# EAGLE library part 1365-70 (library con-leotronics)
DUAL ROW STRAIGHT HEADER 1364 SERIES. 1.27mm x 1.27mm. Without Fixing Post. SMT Source: http://www.leotronics.co.uk/Conexcon/Data%20Sheets/sec.%20A/1364ing.pdf
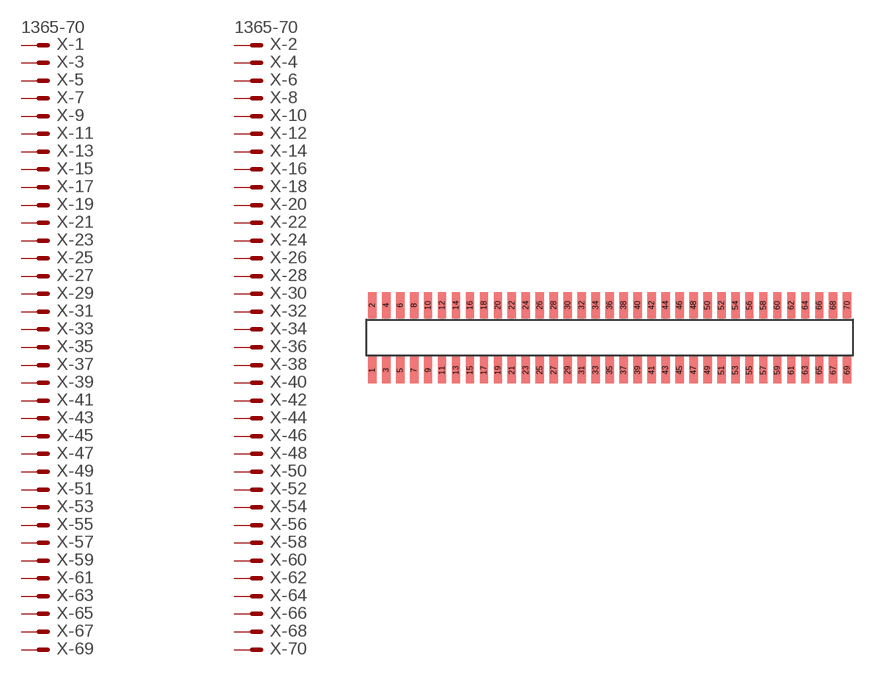
[diagram p78: symbol with the pads of 1365-70; footprint 1365-70]

Designator prefix X; gates -1=MVAL -2=MVAL -3=M -4=M -5=M -6=M -7=M -8=M -9=M -10=M -11=M -12=M -13=M -14=M -15=M -16=M -17=M -18=M -19=M -20=M -21=M -22=M -23=M -24=M -25=M -26=M -27=M -28=M -29=M -30=M -31=M -32=M -33=M -34=M -35=M -36=M -37=M -38=M -39=M -40=M -41=M -42=M -43=M -44=M -45=M -46=M -47=M -48=M -49=M -50=M -51=M -52=M -53=M -54=M -55=M -56=M -57=M -58=M -59=M -60=M -61=M -62=M -63=M -64=M -65=M -66=M -67=M -68=M -69=M -70=M

## 1365-70 (OC_FARNELL: unknown; OC_NEWARK: unknown)  [1365-70]
1  -1:S  pas
2  -2:S  pas
3  -3:S  pas
4  -4:S  pas
5  -5:S  pas
6  -6:S  pas
7  -7:S  pas
8  -8:S  pas
9  -9:S  pas
10  -10:S  pas
11  -11:S  pas
12  -12:S  pas
13  -13:S  pas
14  -14:S  pas
15  -15:S  pas
16  -16:S  pas
17  -17:S  pas
18  -18:S  pas
19  -19:S  pas
20  -20:S  pas
21  -21:S  pas
22  -22:S  pas
23  -23:S  pas
24  -24:S  pas
25  -25:S  pas
26  -26:S  pas
27  -27:S  pas
28  -28:S  pas
29  -29:S  pas
30  -30:S  pas
31  -31:S  pas
32  -32:S  pas
33  -33:S  pas
34  -34:S  pas
35  -35:S  pas
36  -36:S  pas
37  -37:S  pas
38  -38:S  pas
39  -39:S  pas
40  -40:S  pas
41  -41:S  pas
42  -42:S  pas
43  -43:S  pas
44  -44:S  pas
45  -45:S  pas
46  -46:S  pas
47  -47:S  pas
48  -48:S  pas
49  -49:S  pas
50  -50:S  pas
51  -51:S  pas
52  -52:S  pas
53  -53:S  pas
54  -54:S  pas
55  -55:S  pas
56  -56:S  pas
57  -57:S  pas
58  -58:S  pas
59  -59:S  pas
60  -60:S  pas
61  -61:S  pas
62  -62:S  pas
63  -63:S  pas
64  -64:S  pas
65  -65:S  pas
66  -66:S  pas
67  -67:S  pas
68  -68:S  pas
69  -69:S  pas
70  -70:S  pas

## Footprint 1365-70 (pad centres in mm)
DUAL ROW STRAIGHT HEADER 1364 SERIES. 1.27mm x 1.27mm. Without Fixing Post. SMT Source: http://www.leotronics.co.uk/Conexcon/Data%20Sheets/sec.%20A/1364ing.pdf
smd 0.76 x 2.4: 1 -21.59,-2.95; 2 -21.59,2.95; 3 -20.32,-2.95; 4 -20.32,2.95; 5 -19.05,-2.95; 6 -19.05,2.95; 7 -17.78,-2.95; 8 -17.78,2.95; 9 -16.51,-2.95; 10 -16.51,2.95; 11 -15.24,-2.95; 12 -15.24,2.95; 13 -13.97,-2.95; 14 -13.97,2.95; 15 -12.7,-2.95; 16 -12.7,2.95; 17 -11.43,-2.95; 18 -11.43,2.95; 19 -10.16,-2.95; 20 -10.16,2.95; 21 -8.89,-2.95; 22 -8.89,2.95; 23 -7.62,-2.95; 24 -7.62,2.95; 25 -6.35,-2.95; 26 -6.35,2.95; 27 -5.08,-2.95; 28 -5.08,2.95; 29 -3.81,-2.95; 30 -3.81,2.95; 31 -2.54,-2.95; 32 -2.54,2.95; 33 -1.27,-2.95; 34 -1.27,2.95; 35 0,-2.95; 36 0,2.95; 37 1.27,-2.95; 38 1.27,2.95; 39 2.54,-2.95; 40 2.54,2.95; 41 3.81,-2.95; 42 3.81,2.95; 43 5.08,-2.95; 44 5.08,2.95; 45 6.35,-2.95; 46 6.35,2.95; 47 7.62,-2.95; 48 7.62,2.95; 49 8.89,-2.95; 50 8.89,2.95; 51 10.16,-2.95; 52 10.16,2.95; 53 11.43,-2.95; 54 11.43,2.95; 55 12.7,-2.95; 56 12.7,2.95; 57 13.97,-2.95; 58 13.97,2.95; 59 15.24,-2.95; 60 15.24,2.95; 61 16.51,-2.95; 62 16.51,2.95; 63 17.78,-2.95; 64 17.78,2.95; 65 19.05,-2.95; 66 19.05,2.95; 67 20.32,-2.95; 68 20.32,2.95; 69 21.59,-2.95; 70 21.59,2.95